# EAGLE library part PRO-MINI_5BOT (library Arduino-clone)
5 pins at bottom
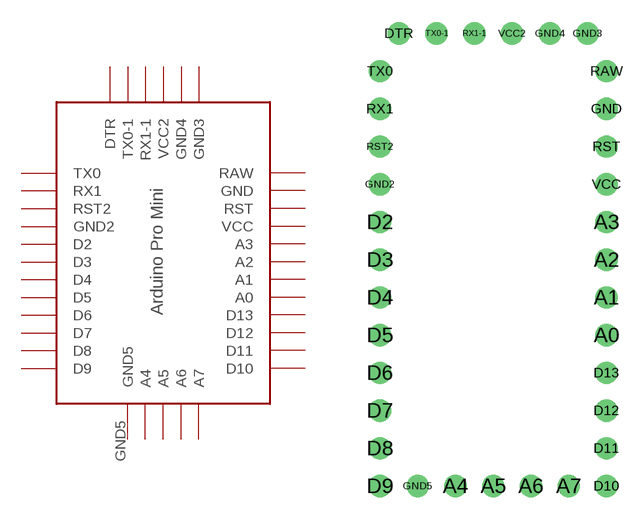
[diagram p5: symbol with the pads of PRO-MINI-5BOT; footprint PRO-MINI-5BOT]

Designator prefix -

## PRO-MINI_5BOT  [PRO-MINI-5BOT]
A0  A0
A1  A1
A2  A2
A3  A3
A4  A4
A5  A5
A6  A6
A7  A7
D2  D2
D3  D3
D4  D4
D5  D5
D6  D6
D7  D7
D8  D8
D9  D9
D10  D10
D11  D11
D12  D12
D13  D13
DTR  DTR
GND  GND  in
GND2  GND2
GND3  GND3
GND4  GND4
GND5  GND5
RAW  RAW  pwr
RST  RST
RST2  RST2
RX1  RX1
RX1-1  RX1-1
TX0  TX0
TX0-1  TX0-1
VCC  VCC
VCC2  VCC2

## Footprint PRO-MINI-5BOT (pad centres in mm)
Arduino Pro Mini Clone
drill 1: A0 8.89,8.89; A1 8.89,11.43; A2 8.89,13.97; A3 8.89,16.51; A4 -1.27,-1.27; A5 1.27,-1.27; A6 3.81,-1.27; A7 6.35,-1.27; D2 -6.35,16.51; D3 -6.35,13.97; D4 -6.35,11.43; D5 -6.35,8.89; D6 -6.35,6.35; D7 -6.35,3.81; D8 -6.35,1.27; D9 -6.35,-1.27; D10 8.89,-1.27; D11 8.89,1.27; D12 8.89,3.81; D13 8.89,6.35; DTR -5.08,29.21; GND 8.89,24.13; GND2 -6.35,19.05; GND3 7.62,29.21; GND4 5.08,29.21; GND5 -3.81,-1.27; RAW 8.89,26.67; RST 8.89,21.59; RST2 -6.35,21.59; RX1 -6.35,24.13; RX1-1 0,29.21; TX0 -6.35,26.67; TX0-1 -2.54,29.21; VCC 8.89,19.05; VCC2 2.54,29.21